# EAGLE library part SIM_MODEM_MODULE (library my_ic)
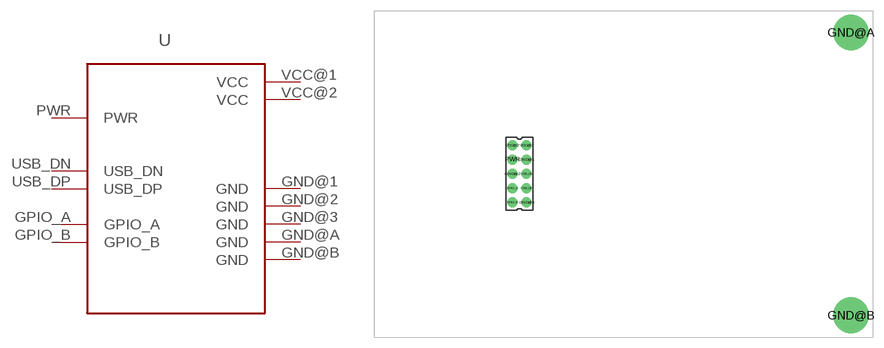
[diagram p15: symbol with the pads of SIM_MODEM_MODULE; footprint SIM_MODEM_MODULE]

Designator prefix -

## SIM_MODEM_MODULE  [SIM_MODEM_MODULE]
GND@1  GND  pwr
GND@2  GND  pwr
GND@3  GND  pwr
GND@A  GND  pwr
GND@B  GND  pwr
GPIO_A  GPIO_A
GPIO_B  GPIO_B
PWR  PWR  in
USB_DN  USB_DN
USB_DP  USB_DP
VCC@1  VCC  pwr
VCC@2  VCC  pwr

## Footprint SIM_MODEM_MODULE (pad centres in mm)
drill 0.9 pad 1.397: GND@1 21.32,24.86; GND@2 19.32,22.86; GND@3 21.32,18.86; GPIO_A 19.32,20.86; GPIO_B 19.32,18.86; PWR 19.32,24.86; USB_DN 21.32,22.86; USB_DP 21.32,20.86; VCC@1 21.32,26.86; VCC@2 19.32,26.86
drill 3.2 pad 5: GND@A 66.802,42.672; GND@B 66.802,3.048